# Altium footprint library LED_5MM_BLUE.PcbLib: 1 footprints
Each footprint in its own frame and in the unit in brackets; x right, y up, seen from the top. Pads: shape width x height; smd on the part's side, far side on the other; paste and mask are expansions set on the pad; w line width, h text height; cw(c..) or ccw(c..) is an arc to the next point about the centre after c.
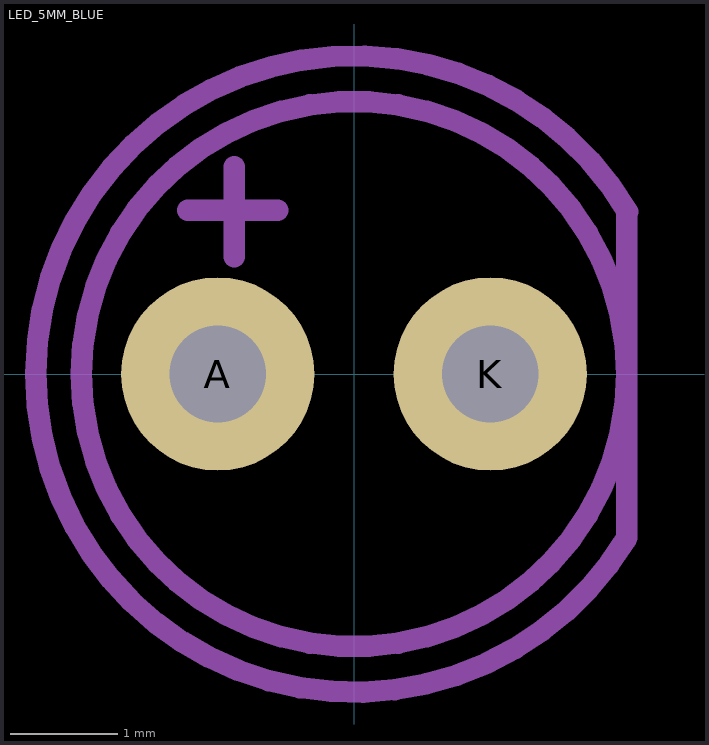
[diagram p0: the footprint, top view; thin cyan lines are the x and y axes]

## LED_5MM_BLUE [mm]
pads (2):
  round 1.8 hole 0.9: A(-1.27,0) K(1.27,0)
Mechanical 13:
  circle w0.2: c0,0 r2.54
  lines w0.2: -1.549,1.524 -0.711,1.524 ; -1.118,1.092 -1.118,1.93 ; 2.54,-1.525 2.54,1.506 ; 2.542,-1.525 cw(c0,0) 2.55,1.512
  text ".Designator" at -2.108,3.429 h1.5
3D body: height 12.31, standoff -2.49, extent -2.98,-3.01 2.44,3.01